# Altium integrated library ST Audio Driver.IntLib: 1 symbol
Pins are listed as number, name and electrical type; pins without a type are passive.

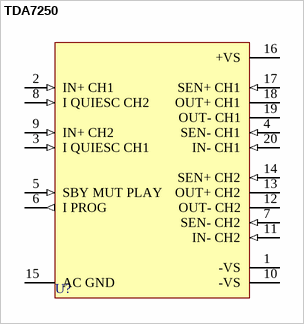
[diagram p0: symbol TDA7250]

## TDA7250
designator U?
60W HI-FI Dual Audio Driver; Published: 24-Aug-2001; LatestRevisionDate: 06-Jun-2005; LatestRevisionNote: Stylized 3D Model Added.; DatasheetVersion: Mar-1995; PackageVersion: Mar-1995; PackageReference: PwrDIP20; Publisher: Altium Limited; PackageDescription: DIP; 20 Leads; Row Spacing 7.62 mm; Pitch 2.54 mm; ComponentLink1Description: Manufacturer Link; ComponentLink1URL: http://www.st.com/; ComponentLink2Description: Datasheet; ComponentLink2URL: http://www.st.com/stonline/products/literature/ds/1472/tda7250.pdf
footprint PwrDIP20 (DIP; 20 Leads; Row Spacing 7.62 mm; Pitch 2.54 mm)
3D model PWRDIP20 (DIP; 20 Leads; Row Spacing 7.62 mm; Pitch 2.54 mm)
pins: 1 -VS (power), 2 IN+ CH1 (in), 3 I QUIESC CH1 (in), 4 SEN- CH1 (in), 5 SBY MUT PLAY (in), 6 I PROG (out), 7 SEN- CH2 (in), 8 I QUIESC CH2 (in), 9 IN+ CH2 (in), 10 -VS (power), 11 IN- CH2 (in), 12 OUT- CH2 (hiz), 13 OUT+ CH2 (hiz), 14 SEN+ CH2 (in), 15 AC GND (power), 16 +VS (power), 17 SEN+ CH1 (in), 18 OUT+ CH1 (hiz), 19 OUT- CH1 (hiz), 20 IN- CH1 (in)